# Altium footprint library QFN_DFN.PcbLib: 28 footprints (part 2 of 2)
Each footprint in its own frame and in the unit in brackets; x right, y up, seen from the top. Pads: shape width x height; smd on the part's side, far side on the other; paste and mask are expansions set on the pad; w line width, h text height; cw(c..) or ccw(c..) is an arc to the next point about the centre after c.
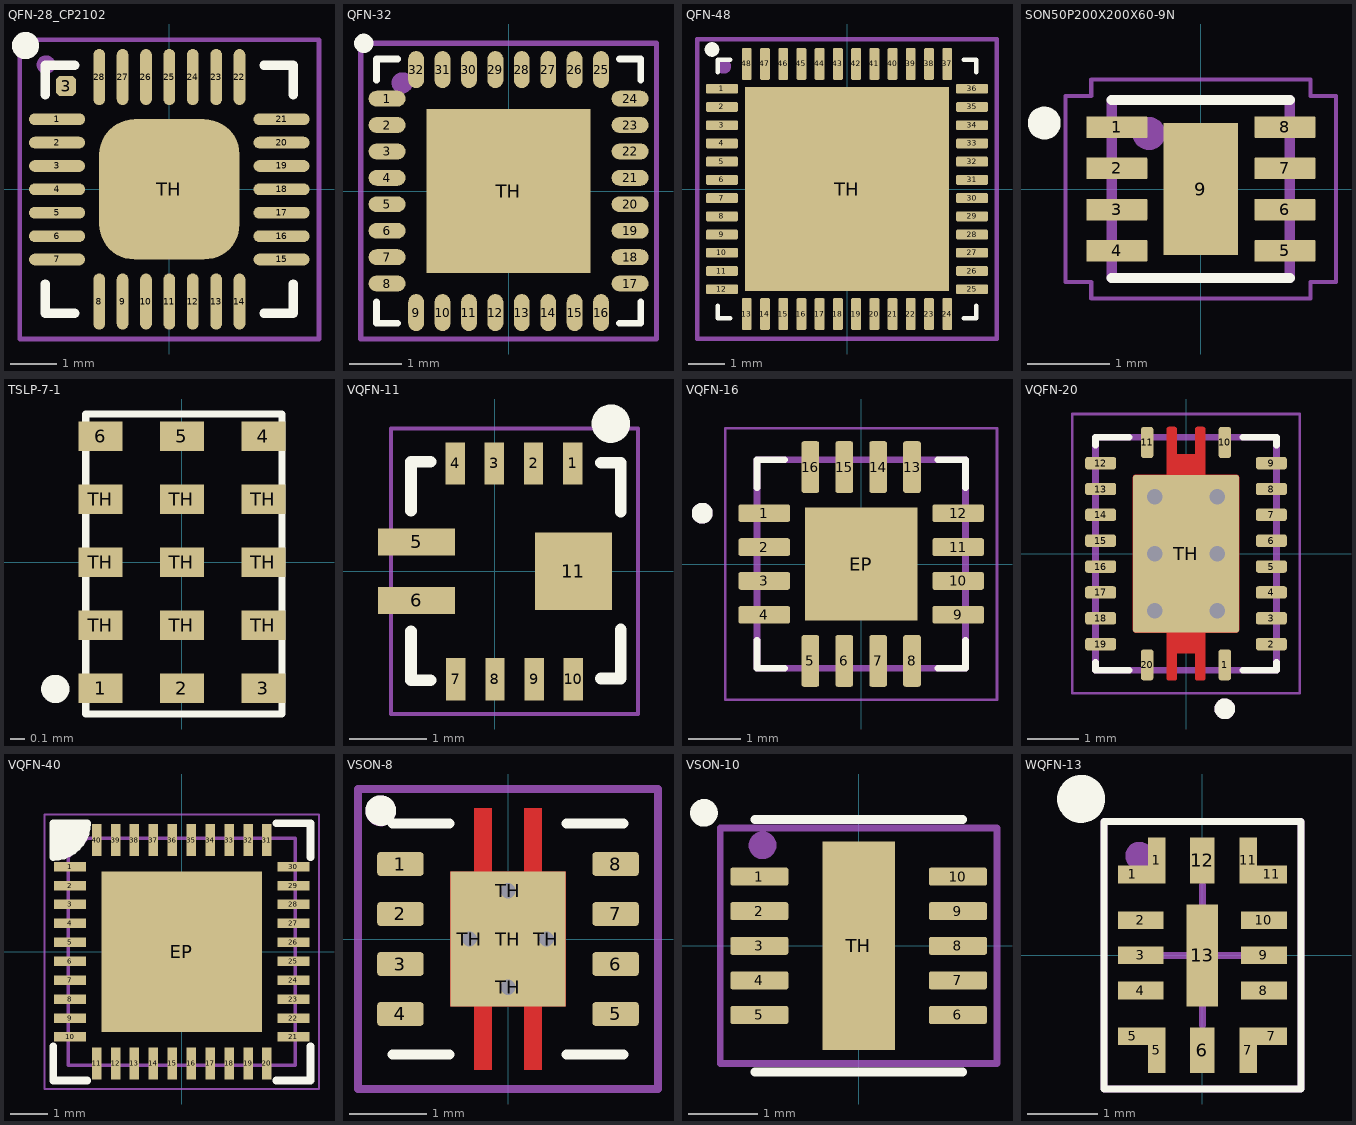
[diagram p1: the footprints below, top view; thin cyan lines are the x and y axes]

## QFN-28_CP2102 [mm] "Body 5,00x5,00mm, Pitch 0,50mm"
height 1
pads (30):
  oval 1.2x0.25 smd: 1(-2.4,1.5) 2(-2.4,1) 3(-2.4,0.5) 4(-2.4,0) 5(-2.4,-0.5) 6(-2.4,-1) 7(-2.4,-1.5) 15(2.4,-1.5) 16(2.4,-1) 17(2.4,-0.5) 18(2.4,0) 19(2.4,0.5) 20(2.4,1) 21(2.4,1.5)
  rrect50% 0.435x0.435 smd: 3(-2.21,2.21)
  oval 0.25x1.2 smd: 8(-1.5,-2.4) 9(-1,-2.4) 10(-0.5,-2.4) 11(0,-2.4) 12(0.5,-2.4) 13(1,-2.4) 14(1.5,-2.4) 22(1.5,2.4) 23(1,2.4) 24(0.5,2.4) 25(0,2.4) 26(-0.5,2.4) 27(-1,2.4) 28(-1.5,2.4)
  rrect50% 3x3 smd: TH(0,0)
Top Overlay:
  circle w0.3: c-3.075,3.075 r0.14
  lines w0.2: -2.65,-2.025 -2.65,-2.65 -2.025,-2.65 ; -2.65,2.025 -2.65,2.65 -2.025,2.65 ; 2.025,-2.65 2.65,-2.65 2.65,-2.025 ; 2.025,2.65 2.65,2.65 2.65,2.025
Top Assembly:
  circle w0.2: c-2.638,2.666 r0.1
  lines w0.1: -1,0 1,0 ; 0,-1 0,1 ; -3.2,-3.2 3.2,-3.2 3.2,3.2 -3.2,3.2 -3.2,-3.2
Top Courtyard (Mech15):
  lines w0.1: -3.2,-3.2 -3.2,3.2 3.2,3.2 3.2,-3.2 -3.2,-3.2
3D body: height 1, standoff 0.03, extent -2.5,-2.5 2.5,2.5

## QFN-32 [mm]
pads (33):
  oval 0.7x0.3 smd mask+0: 1(-2.3,1.75) 2(-2.3,1.25) 3(-2.3,0.75) 4(-2.3,0.25) 5(-2.3,-0.25) 6(-2.3,-0.75) 7(-2.3,-1.25) 8(-2.3,-1.75) 17(2.3,-1.75) 18(2.3,-1.25) 19(2.3,-0.75) 20(2.3,-0.25) 21(2.3,0.25) 22(2.3,0.75) 23(2.3,1.25) 24(2.3,1.75)
  oval 0.3x0.7 smd mask+0: 9(-1.75,-2.3) 10(-1.25,-2.3) 11(-0.75,-2.3) 12(-0.25,-2.3) 13(0.25,-2.3) 14(0.75,-2.3) 15(1.25,-2.3) 16(1.75,-2.3) 25(1.75,2.3) 26(1.25,2.3) 27(0.75,2.3) 28(0.25,2.3) 29(-0.25,2.3) 30(-0.75,2.3) 31(-1.25,2.3) 32(-1.75,2.3)
  rect 3.1x3.1 smd paste-3: TH(0,0)
Top Overlay:
  circle w0.2: c-2.741,2.797 r0.081
  lines w0.127: -2.5,-2.1 -2.5,-2.5 -2.1,-2.5 ; -2.5,2.1 -2.5,2.5 -2.1,2.5 ; 2.1,-2.5 2.5,-2.5 2.5,-2.1 ; 2.1,2.5 2.5,2.5 2.5,2.1
Top Paste:
  region: 0.98,-0.982 -0.982,-0.982 -0.982,0.98 0.98,0.98
Top Solder:
  lines w0.4: -2.499,-1.749 -2.099,-1.749 ; -2.499,-1.249 -2.099,-1.249 ; -2.499,-0.749 -2.099,-0.749 ; -2.499,-0.249 -2.099,-0.249 ; -2.499,0.251 -2.099,0.251 ; -2.499,0.751 -2.099,0.751 ; -2.499,1.251 -2.099,1.251 ; -2.499,1.751 -2.099,1.751 ; -1.749,-2.499 -1.749,-2.099 ; -1.749,2.101 -1.749,2.501 ; -1.249,-2.499 -1.249,-2.099 ; -1.249,2.101 -1.249,2.501 ; -0.749,-2.499 -0.749,-2.099 ; -0.749,2.101 -0.749,2.501 ; -0.249,-2.499 -0.249,-2.099 ; -0.249,2.101 -0.249,2.501 ; 0.251,-2.499 0.251,-2.099 ; 0.251,2.101 0.251,2.501 ; 0.751,-2.499 0.751,-2.099 ; 0.751,2.101 0.751,2.501 ; 1.251,-2.499 1.251,-2.099 ; 1.251,2.101 1.251,2.501 ; 1.751,-2.499 1.751,-2.099 ; 1.751,2.101 1.751,2.501 ; 2.101,-1.749 2.501,-1.749 ; 2.101,-1.249 2.501,-1.249 ; 2.101,-0.749 2.501,-0.749 ; 2.101,-0.249 2.501,-0.249 ; 2.101,0.251 2.501,0.251 ; 2.101,0.751 2.501,0.751 ; 2.101,1.251 2.501,1.251 ; 2.101,1.751 2.501,1.751
Top Assembly:
  circle w0.2: c-2.013,2.048 r0.1
  lines w0.1: -1,0 1,0 ; 0,-1 0,1 ; -2.8,-2.8 -2.8,2.8 2.8,2.8 2.8,-2.8 -2.8,-2.8
Top Courtyard (Mech15):
  lines w0.1: -2.8,-2.8 -2.8,2.8 2.8,2.8 2.8,-2.8 -2.8,-2.8
3D body "step_temp.STEP": height 0.97, standoff -0.03, extent -2.5,-2.5 2.5,2.5

## QFN-48 [mm]
pads (49):
  rrect25% 0.87x0.27 smd: 1(-3.43,2.75) 2(-3.43,2.25) 3(-3.43,1.75) 4(-3.43,1.25) 5(-3.43,0.75) 6(-3.43,0.25) 7(-3.43,-0.25) 8(-3.43,-0.75) 9(-3.43,-1.25) 10(-3.43,-1.75) 11(-3.43,-2.25) 12(-3.43,-2.75) 25(3.43,-2.75) 26(3.43,-2.25) 27(3.43,-1.75) 28(3.43,-1.25) 29(3.43,-0.75) 30(3.43,-0.25) 31(3.43,0.25) 32(3.43,0.75) 33(3.43,1.25) 34(3.43,1.75) 35(3.43,2.25) 36(3.43,2.75)
  rrect25% 0.27x0.87 smd: 13(-2.75,-3.43) 14(-2.25,-3.43) 15(-1.75,-3.43) 16(-1.25,-3.43) 17(-0.75,-3.43) 18(-0.25,-3.43) 19(0.25,-3.43) 20(0.75,-3.43) 21(1.25,-3.43) 22(1.75,-3.43) 23(2.25,-3.43) 24(2.75,-3.43) 37(2.75,3.43) 38(2.25,3.43) 39(1.75,3.43) 40(1.25,3.43) 41(0.75,3.43) 42(0.25,3.43) 43(-0.25,3.43) 44(-0.75,3.43) 45(-1.25,3.43) 46(-1.75,3.43) 47(-2.25,3.43) 48(-2.75,3.43)
  rect 5.6x5.6 smd paste-4: TH(0,0)
Top Overlay:
  circle w0.2: c-3.704,3.828 r0.1
  lines w0.127: -3.55,-3.205 -3.55,-3.55 -3.205,-3.55 ; -3.55,3.205 -3.55,3.55 -3.205,3.55 ; 3.205,-3.55 3.55,-3.55 3.55,-3.205 ; 3.205,3.55 3.55,3.55 3.55,3.205
Top Paste:
  region: -0.51,0.51 -2.29,0.51 -2.29,2.29 -0.51,2.29
  region: 2.29,0.51 0.51,0.51 0.51,2.29 2.29,2.29
  region: -0.51,-2.29 -2.29,-2.29 -2.29,-0.51 -0.51,-0.51
  region: 2.29,-2.29 0.51,-2.29 0.51,-0.51 2.29,-0.51
Top Assembly:
  circle w0.2: c-3.38,3.365 r0.1
  lines w0.1: -1,0 1,0 ; 0,-1 0,1 ; -4.1,-4.1 4.1,-4.1 4.1,4.1 -4.1,4.1 -4.1,-4.1
Top Courtyard (Mech15):
  lines w0.1: -4.115,-4.115 4.115,-4.115 4.115,4.115 -4.115,4.115 -4.115,-4.115
3D body "ALSRobot-QFN48 7x7.step": height 0.78, standoff -0.02, extent -3.51,-3.51 3.51,3.51

## SON50P200X200X60-9N [mm]
pads (9):
  rrect7% 0.74x0.26 smd: 1(-1.02,0.75) 2(-1.02,0.25) 3(-1.02,-0.25) 4(-1.02,-0.75) 5(1.02,-0.75) 6(1.02,-0.25) 7(1.02,0.25) 8(1.02,0.75)
  rect 0.9x1.6 smd: 9(0,0)
Top Overlay:
  circle w0.2: c-1.9,0.8 r0.1
  lines w0.127: -1.08,-1.08 1.08,-1.08 ; -1.08,1.08 1.08,1.08
Top Assembly:
  circle w0.2: c-0.63,0.673 r0.1
  lines w0.127: -1.08,-1.08 -1.08,1.08 1.08,1.08 1.08,-1.08 -1.08,-1.08
Top Courtyard (Mech15):
  lines w0.05: -1.64,-1.13 -1.33,-1.13 -1.33,-1.33 1.33,-1.33 1.33,-1.13 1.64,-1.13 1.64,1.13 1.33,1.13 1.33,1.33 -1.33,1.33 -1.33,1.13 -1.64,1.13 -1.64,-1.13
3D body: height 0.7, standoff 0, extent -1.092,-1.092 1.092,1.092

## TSLP-7-1 [mm]
pads (15):
  rect 0.3x0.2 smd mask+0.03: 1(-0.55,-0.85) 2(0,-0.85) 3(0.55,-0.85) 4(0.55,0.85) 5(0,0.85) 6(-0.55,0.85) TH(-0.55,-0.425) TH(-0.55,0) TH(-0.55,0.425) TH(0,-0.425) TH(0,0) TH(0,0.425) TH(0.55,-0.425) TH(0.55,0) TH(0.55,0.425)
Top Overlay:
  circle w0.15: c-0.855,-0.856 r0.02
  lines w0.05: -0.65,-1.025 -0.65,1 0.675,1 0.675,-1.025 -0.65,-1.025
3D body: height 0.4, standoff 0, extent -0.65,-1 0.65,1

## VQFN-11 [mm]
pads (11):
  rect 0.25x0.55 smd: 1(1.008,1.397) 2(0.5,1.397) 3(-0.008,1.397) 4(-0.516,1.397) 7(-0.508,-1.397) 8(0,-1.397) 9(0.508,-1.397) 10(1.016,-1.397)
  rect 1x0.35 smd: 5(-1.016,0.381) 6(-1.015,-0.377)
  rect 1x1 smd: 11(1.016,0)
Top Overlay:
  circle w0.25: c1.503,1.914 r0.125
  lines w0.152: -1.088,-0.779 -1.088,-1.414 -0.834,-1.414 ; -1.088,0.783 -1.088,1.418 -0.834,1.418 ; 1.376,-1.388 1.63,-1.388 1.63,-0.753 ; 1.376,1.406 1.63,1.406 1.63,0.771
Top Assembly:
  lines w0.05: -1.346,-1.85 1.854,-1.85 1.854,1.85 -1.346,1.85 -1.346,-1.85
3D body: height 1, standoff 0.05, extent -0.796,-1.3 1.304,1.3

## VQFN-16 [mm]
height 1.2
pads (17):
  rrect25% 0.99x0.34 smd: 1(-1.86,0.975) 2(-1.86,0.325) 3(-1.86,-0.325) 4(-1.86,-0.975) 9(1.86,-0.975) 10(1.86,-0.325) 11(1.86,0.325) 12(1.86,0.975)
  rrect25% 0.34x0.99 smd: 5(-0.975,-1.86) 6(-0.325,-1.86) 7(0.325,-1.86) 8(0.975,-1.86) 13(0.975,1.86) 14(0.325,1.86) 15(-0.325,1.86) 16(-0.975,1.86)
  rect 2.16x2.16 smd paste-2: EP(0,0)
Top Overlay:
  circle w0.2: c-3.05,0.975 r0.1
  lines w0.127: -2,-1.465 -2,-2 -1.465,-2 ; -2,1.465 -2,2 -1.465,2 ; 1.465,-2 2,-2 2,-1.465 ; 1.465,2 2,2 2,1.465
Top Paste:
  region: 0.68,-0.68 -0.68,-0.68 -0.68,0.68 0.68,0.68
Top Assembly:
  circle w0.2: c-3.05,0.975 r0.1
  lines w0.127: -2,-2 2,-2 2,2 -2,2 -2,-2
Top Courtyard (Mech15):
  lines w0.05: -2.605,-2.605 2.605,-2.605 2.605,2.605 -2.605,2.605 -2.605,-2.605
3D body "ALSRobot-QFN16 4x4.step": height 0.92, standoff 0, extent -2,-2 2,2

## VQFN-20 [mm]
height 1.2
pads (21):
  rrect42% 0.24x0.6 smd: 1(0.75,-2.15) 10(0.75,2.15) 11(-0.75,2.15) 20(-0.75,-2.15)
  rrect42% 0.6x0.24 smd: 2(1.65,-1.75) 3(1.65,-1.25) 4(1.65,-0.75) 5(1.65,-0.25) 6(1.65,0.25) 7(1.65,0.75) 8(1.65,1.25) 9(1.65,1.75) 12(-1.65,1.75) 13(-1.65,1.25) 14(-1.65,0.75) 15(-1.65,0.25) 16(-1.65,-0.25) 17(-1.65,-0.75) 18(-1.65,-1.25) 19(-1.65,-1.75)
  rrect5% 2.05x3.05 smd paste-3: TH(0,0)
via -0.6,1.1 diameter 0.6 hole 0.3
via 0.6,1.1 diameter 0.6 hole 0.3
via 0.6,-1.1 diameter 0.6 hole 0.3
via -0.6,-1.1 diameter 0.6 hole 0.3
via -0.6,0 diameter 0.6 hole 0.3
via 0.6,0 diameter 0.6 hole 0.3
Top Layer:
  region: 380 vertices and 0 holes, not listed, extent -1.025,-2.45 1.025,2.45
Top Overlay:
  circle w0.2: c0.75,-3 r0.1
  lines w0.127: -1.75,-2.1 -1.75,-2.25 -1.1,-2.25 ; -1.75,2.1 -1.75,2.25 -1.1,2.25 ; 1.1,-2.25 1.75,-2.25 1.75,-2.1 ; 1.1,2.25 1.75,2.25 1.75,2.1
Top Paste:
  drawing of 8 lines, arcs and shapes, not listed
Top Solder:
  drawing of 1 lines, arcs and shapes, not listed
Top Assembly:
  circle w0.2: c0.75,-3 r0.1
  lines w0.127: -1.75,-2.25 1.75,-2.25 1.75,2.25 -1.75,2.25 -1.75,-2.25
Top Courtyard (Mech15):
  lines w0.05: -2.2,-2.7 -2.2,2.7 2.2,2.7 2.2,-2.7 -2.2,-2.7
3D body "User Library-20-VQFN (3_5x4_5).STEP": height 0.85, standoff -0.05, extent -1.76,-2.26 1.76,2.26

## VQFN-40 [mm]
height 1.75
pads (41):
  rect 0.85x0.25 smd: 1(-2.95,2.25) 2(-2.95,1.75) 3(-2.95,1.25) 4(-2.95,0.75) 5(-2.95,0.25) 6(-2.95,-0.25) 7(-2.95,-0.75) 8(-2.95,-1.25) 9(-2.95,-1.75) 10(-2.95,-2.25) 21(2.95,-2.25) 22(2.95,-1.75) 23(2.95,-1.25) 24(2.95,-0.75) 25(2.95,-0.25) 26(2.95,0.25) 27(2.95,0.75) 28(2.95,1.25) 29(2.95,1.75) 30(2.95,2.25)
  rect 0.25x0.85 smd: 11(-2.25,-2.95) 12(-1.75,-2.95) 13(-1.25,-2.95) 14(-0.75,-2.95) 15(-0.25,-2.95) 16(0.25,-2.95) 17(0.75,-2.95) 18(1.25,-2.95) 19(1.75,-2.95) 20(2.25,-2.95) 31(2.25,2.95) 32(1.75,2.95) 33(1.25,2.95) 34(0.75,2.95) 35(0.25,2.95) 36(-0.25,2.95) 37(-0.75,2.95) 38(-1.25,2.95) 39(-1.75,2.95) 40(-2.25,2.95)
  rect 4.25x4.25 smd: EP(0,0)
Top Overlay:
  rectangle: -3.4,2.6 -2.8,3.4
  rectangle: -3.4,2.8 -2.6,3.4
  lines w0.2: -3.4,-2.5 -3.4,-3.4 -2.5,-3.4 ; 2.5,-3.4 3.4,-3.4 3.4,-2.5 ; 2.5,3.4 3.4,3.4 3.4,2.5 ; -3.4,2.5 ccw(c-3.4,3.4) -2.5,3.4 -3.4,3.4 -3.4,2.5
Top Assembly:
  lines w0.1: -3,2.5 -2.5,3 ; -3,-3 -3,3 3,3 3,-3 -3,-3
Top Courtyard (Mech15):
  lines w0.05: -3.625,-3.625 -3.625,3.625 3.625,3.625 3.625,-3.625 -3.625,-3.625
3D body "MSP430FR5848IRHAT.stp": height 1, standoff 0, extent -3,-3 3,3

## VSON-8 [mm]
pads (13):
  rrect25% 0.6x0.31 smd mask+0: 1(-1.4,0.975) 2(-1.4,0.325) 3(-1.4,-0.325) 4(-1.4,-0.975) 5(1.4,-0.975) 6(1.4,-0.325) 7(1.4,0.325) 8(1.4,0.975)
  round 0.4 hole 0.2 mask+0: TH(-0.5,0) TH(0,-0.625) TH(0,0.625) TH(0.5,0)
  rect 1.5x1.75 smd paste-2 mask+0: TH(0,0)
Top Layer:
  region: 0.44,0.875 0.75,0.875 0.75,-0.875 0.44,-0.875 0.44,-1.7 0.21,-1.7 0.21,-0.875 -0.21,-0.875 -0.21,-1.7 -0.44,-1.7 -0.44,-0.875 -0.75,-0.875 -0.75,0.875 -0.44,0.875 -0.44,1.7 -0.21,1.7 -0.21,0.875 0.21,0.875 0.21,1.7 0.44,1.7
Top Overlay:
  circle w0.2: c-1.654,1.669 r0.1
  lines w0.127: -1.5,-1.5 -0.76,-1.5 ; -1.5,1.5 -0.76,1.5 ; 0.76,-1.5 1.5,-1.5 ; 0.76,1.5 1.5,1.5
Top Paste:
  region: 0.67,-0.775 -0.67,-0.775 -0.67,0.775 0.67,0.775
  region: -0.21,0.975 -0.44,0.975 -0.44,1.7 -0.21,1.7
  region: 0.44,0.975 0.21,0.975 0.21,1.7 0.44,1.7
  region: 0.44,-1.7 0.21,-1.7 0.21,-0.975 0.44,-0.975
  region: -0.21,-1.7 -0.44,-1.7 -0.44,-0.975 -0.21,-0.975
Top Solder:
  region: 0.51,0.945 0.82,0.945 0.82,-0.945 0.51,-0.945 0.51,-1.77 0.14,-1.77 0.14,-0.945 -0.14,-0.945 -0.14,-1.77 -0.51,-1.77 -0.51,-0.945 -0.82,-0.945 -0.82,0.945 -0.51,0.945 -0.51,1.77 -0.14,1.77 -0.14,0.945 0.14,0.945 0.14,1.77 0.51,1.77
  region: -1.03,0.75 -1.77,0.75 -1.77,1.2 -1.03,1.2
  region: 1.77,0.75 1.03,0.75 1.03,1.2 1.77,1.2
  region: -1.03,0.1 -1.77,0.1 -1.77,0.55 -1.03,0.55
  region: -1.03,-0.55 -1.77,-0.55 -1.77,-0.1 -1.03,-0.1
  region: -1.03,-1.2 -1.77,-1.2 -1.77,-0.75 -1.03,-0.75
  region: 1.77,0.1 1.03,0.1 1.03,0.55 1.77,0.55
  region: 1.77,-0.55 1.03,-0.55 1.03,-0.1 1.77,-0.1
  region: 1.77,-1.2 1.03,-1.2 1.03,-0.75 1.77,-0.75
Top Assembly:
  circle w0.2: c-1.654,1.665 r0.1
  lines w0.1: -1.95,-1.95 -1.95,1.95 1.95,1.95 1.95,-1.95 -1.95,-1.95
Top Courtyard (Mech15):
  lines w0.1: -1.95,-1.95 1.95,-1.95 1.95,1.95 -1.95,1.95 -1.95,-1.95
3D body "step_temp.STEP": height 1, standoff 0, extent -1.5,-1.5 1.5,1.5

## VSON-10 [mm]
pads (11):
  rrect25% 0.84x0.26 smd: 1(-1.435,1) 2(-1.435,0.5) 3(-1.435,0) 4(-1.435,-0.5) 5(-1.435,-1) 6(1.435,-1) 7(1.435,-0.5) 8(1.435,0) 9(1.435,0.5) 10(1.435,1)
  rect 1.05x3.01 smd paste-3: TH(0,0)
Top Overlay:
  circle w0.2: c-2.236,1.922 r0.1
  lines w0.127: -1.5,-1.825 1.5,-1.825 ; -1.5,1.825 1.5,1.825
Top Paste:
  region: 0.33,-0.95 -0.33,-0.95 -0.33,0.95 0.33,0.95
Top Assembly:
  circle w0.2: c-1.389,1.453 r0.1
  lines w0.1: -2,-1.7 2,-1.7 2,1.7 -2,1.7 -2,-1.7
Top Courtyard (Mech15):
  lines w0.1: -2,-1.7 2,-1.7 2,1.7 -2,1.7 -2,-1.7
3D body "step_temp.STEP": height 1, standoff 0, extent -1.5,-1.5 1.5,1.5

## WQFN-13 [mm]
pads (17):
  rect 0.425x0.25 smd: 1(-0.988,1.15) 5(-0.988,-1.15) 7(0.988,-1.15) 11(0.988,1.15)
  rect 0.25x0.65 smd: 1(-0.65,1.35) 5(-0.65,-1.35) 7(0.65,-1.35) 11(0.65,1.35)
  rect 0.65x0.25 smd: 2(-0.875,0.5) 3(-0.875,0) 4(-0.875,-0.5) 8(0.875,-0.5) 9(0.875,0) 10(0.875,0.5)
  rect 0.35x0.65 smd: 6(0,-1.35) 12(0,1.35)
  rect 0.45x1.45 smd: 13(0,0)
Top Overlay:
  circle w0.4: c-1.724,2.224 r0.141
  lines w0.1: -1.4,-1.9 1.4,-1.9 1.4,1.9 -1.4,1.9 -1.4,-1.9
Top Assembly:
  circle w0.2: c-0.895,1.415 r0.1
  lines w0.1: -1,0 1,0 ; 0,-1 0,1 ; -1.4,-1.9 -1.4,1.9 1.4,1.9 1.4,-1.9 -1.4,-1.9
Top Courtyard (Mech15):
  lines w0.1: -1.4,-1.9 1.4,-1.9 1.4,1.9 -1.4,1.9 -1.4,-1.9
3D body "LM60430ARPKR.stp": height 0.8, standoff 0, extent -1,-1.5 1,1.5